# EAGLE library part HAMAMATSU-S11059 (library FaBo-Sensor)
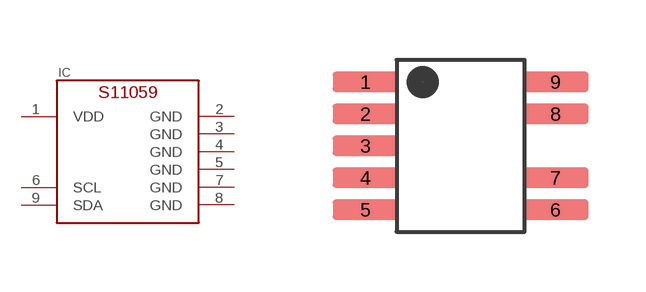
[diagram p1: symbol with the pads of HAMAMATSU-S11059; footprint HAMAMATSU-S11059]

Designator prefix IC

## HAMAMATSU-S11059  [HAMAMATSU-S11059]
1  VDD
2  GND
3  GND
4  GND
5  GND
6  SCL
7  GND
8  GND
9  SDA

## Footprint HAMAMATSU-S11059 (pad centres in mm)
smd 1.65 x 0.5: 1 -2.375,1.6; 2 -2.375,0.8; 3 -2.375,0; 4 -2.375,-0.8; 5 -2.375,-1.6; 6 2.375,-1.6; 7 2.375,-0.8; 8 2.375,0.8; 9 2.375,1.6